# EAGLE library part AD1938WBSTZ (library 2022-04-18_19-21-15_Library)
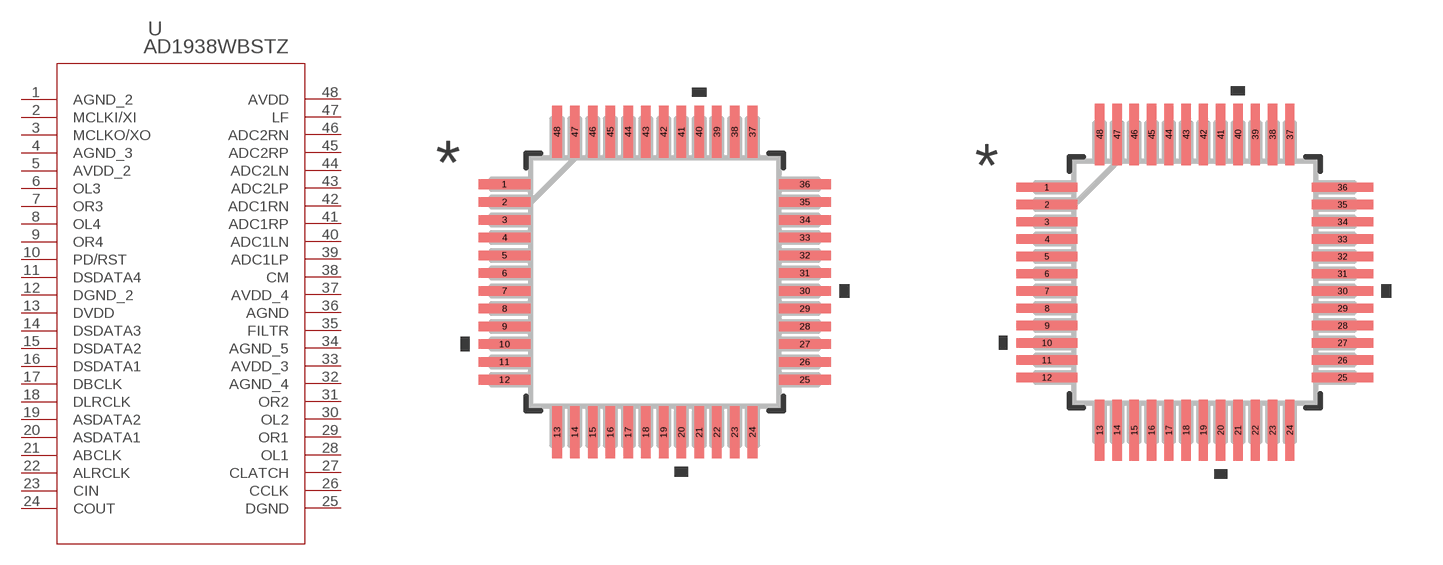
[diagram p0: symbol with the pads of ST_48_ADI; footprints ST_48_ADI, ST_48_ADI-M]

Designator prefix U

## AD1938WBSTZST_48_ADI (Copyright: Copyright (C) 2022 Ultra Librarian. All rights reserved.; Manufacturer_Part_Number: AD1938WBSTZ; Mfr_Name: Analog Devices Inc)  [ST_48_ADI]
1  AGND_2  pas
2  MCLKI/XI  in
3  MCLKO/XO  in
4  AGND_3  pas
5  AVDD_2  pwr
6  OL3  out
7  OR3  out
8  OL4  out
9  OR4  out
10  PD/RST  pas
11  DSDATA4
12  DGND_2  pas
13  DVDD  pwr
14  DSDATA3  in
15  DSDATA2  in
16  DSDATA1  in
17  DBCLK  in
18  DLRCLK  in
19  ASDATA2  out
20  ASDATA1  out
21  ABCLK  in
22  ALRCLK  in
23  CIN  in
24  COUT  out
25  DGND  pas
26  CCLK  in
27  CLATCH  pas
28  OL1  out
29  OR1  out
30  OL2  out
31  OR2  out
32  AGND_4  pas
33  AVDD_3  pwr
34  AGND_5  pas
35  FILTR  pas
36  AGND  pas
37  AVDD_4  pwr
38  CM  pas
39  ADC1LP  pas
40  ADC1LN  pas
41  ADC1RP  pas
42  ADC1RN  pas
43  ADC2LP  pas
44  ADC2LN  pas
45  ADC2RP  pas
46  ADC2RN  pas
47  LF  pas
48  AVDD  pwr

## AD1938WBSTZST_48_ADI-M (Copyright: Copyright (C) 2022 Ultra Librarian. All rights reserved.; Manufacturer_Part_Number: AD1938WBSTZ; Mfr_Name: Analog Devices Inc)  [ST_48_ADI-M]
Pads as for ST_48_ADI

## AD1938WBSTZST_48_ADI-L (Copyright: Copyright (C) 2022 Ultra Librarian. All rights reserved.; Manufacturer_Part_Number: AD1938WBSTZ; Mfr_Name: Analog Devices Inc)  [ST_48_ADI-L]
Pads as for ST_48_ADI

## Footprint ST_48_ADI (pad centres in mm)
smd 1.461 x 0.27: 1 -4.225,2.75; 2 -4.225,2.25; 3 -4.225,1.75; 4 -4.225,1.25; 5 -4.225,0.75; 6 -4.225,0.25; 7 -4.225,-0.25; 8 -4.225,-0.75; 9 -4.225,-1.25; 10 -4.225,-1.75; 11 -4.225,-2.25; 12 -4.225,-2.75; 25 4.225,-2.75; 26 4.225,-2.25; 27 4.225,-1.75; 28 4.225,-1.25; 29 4.225,-0.75; 30 4.225,-0.25; 31 4.225,0.25; 32 4.225,0.75; 33 4.225,1.25; 34 4.225,1.75; 35 4.225,2.25; 36 4.225,2.75
smd 0.27 x 1.461: 13 -2.75,-4.225; 14 -2.25,-4.225; 15 -1.75,-4.225; 16 -1.25,-4.225; 17 -0.75,-4.225; 18 -0.25,-4.225; 19 0.25,-4.225; 20 0.75,-4.225; 21 1.25,-4.225; 22 1.75,-4.225; 23 2.25,-4.225; 24 2.75,-4.225; 37 2.75,4.225; 38 2.25,4.225; 39 1.75,4.225; 40 1.25,4.225; 41 0.75,4.225; 42 0.25,4.225; 43 -0.25,4.225; 44 -0.75,4.225; 45 -1.25,4.225; 46 -1.75,4.225; 47 -2.25,4.225; 48 -2.75,4.225

## Footprint ST_48_ADI-M (pad centres in mm)
smd 1.766 x 0.27: 1 -4.276,2.75; 2 -4.276,2.25; 3 -4.276,1.75; 4 -4.276,1.25; 5 -4.276,0.75; 6 -4.276,0.25; 7 -4.276,-0.25; 8 -4.276,-0.75; 9 -4.276,-1.25; 10 -4.276,-1.75; 11 -4.276,-2.25; 12 -4.276,-2.75; 25 4.276,-2.75; 26 4.276,-2.25; 27 4.276,-1.75; 28 4.276,-1.25; 29 4.276,-0.75; 30 4.276,-0.25; 31 4.276,0.25; 32 4.276,0.75; 33 4.276,1.25; 34 4.276,1.75; 35 4.276,2.25; 36 4.276,2.75
smd 0.27 x 1.766: 13 -2.75,-4.276; 14 -2.25,-4.276; 15 -1.75,-4.276; 16 -1.25,-4.276; 17 -0.75,-4.276; 18 -0.25,-4.276; 19 0.25,-4.276; 20 0.75,-4.276; 21 1.25,-4.276; 22 1.75,-4.276; 23 2.25,-4.276; 24 2.75,-4.276; 37 2.75,4.276; 38 2.25,4.276; 39 1.75,4.276; 40 1.25,4.276; 41 0.75,4.276; 42 0.25,4.276; 43 -0.25,4.276; 44 -0.75,4.276; 45 -1.25,4.276; 46 -1.75,4.276; 47 -2.25,4.276; 48 -2.75,4.276

## Footprint ST_48_ADI-L (pad centres in mm)
smd 1.156 x 0.219: 1 -4.174,2.75; 2 -4.174,2.25; 3 -4.174,1.75; 4 -4.174,1.25; 5 -4.174,0.75; 6 -4.174,0.25; 7 -4.174,-0.25; 8 -4.174,-0.75; 9 -4.174,-1.25; 10 -4.174,-1.75; 11 -4.174,-2.25; 12 -4.174,-2.75; 25 4.174,-2.75; 26 4.174,-2.25; 27 4.174,-1.75; 28 4.174,-1.25; 29 4.174,-0.75; 30 4.174,-0.25; 31 4.174,0.25; 32 4.174,0.75; 33 4.174,1.25; 34 4.174,1.75; 35 4.174,2.25; 36 4.174,2.75
smd 0.219 x 1.156: 13 -2.75,-4.174; 14 -2.25,-4.174; 15 -1.75,-4.174; 16 -1.25,-4.174; 17 -0.75,-4.174; 18 -0.25,-4.174; 19 0.25,-4.174; 20 0.75,-4.174; 21 1.25,-4.174; 22 1.75,-4.174; 23 2.25,-4.174; 24 2.75,-4.174; 37 2.75,4.174; 38 2.25,4.174; 39 1.75,4.174; 40 1.25,4.174; 41 0.75,4.174; 42 0.25,4.174; 43 -0.25,4.174; 44 -0.75,4.174; 45 -1.25,4.174; 46 -1.75,4.174; 47 -2.25,4.174; 48 -2.75,4.174